# Altium footprint library 691 242 610 0xx.PcbLib: 3 footprints
Each footprint in its own frame and in the unit in brackets; x right, y up, seen from the top. Pads: shape width x height; smd on the part's side, far side on the other; paste and mask are expansions set on the pad; w line width, h text height; cw(c..) or ccw(c..) is an arc to the next point about the centre after c.
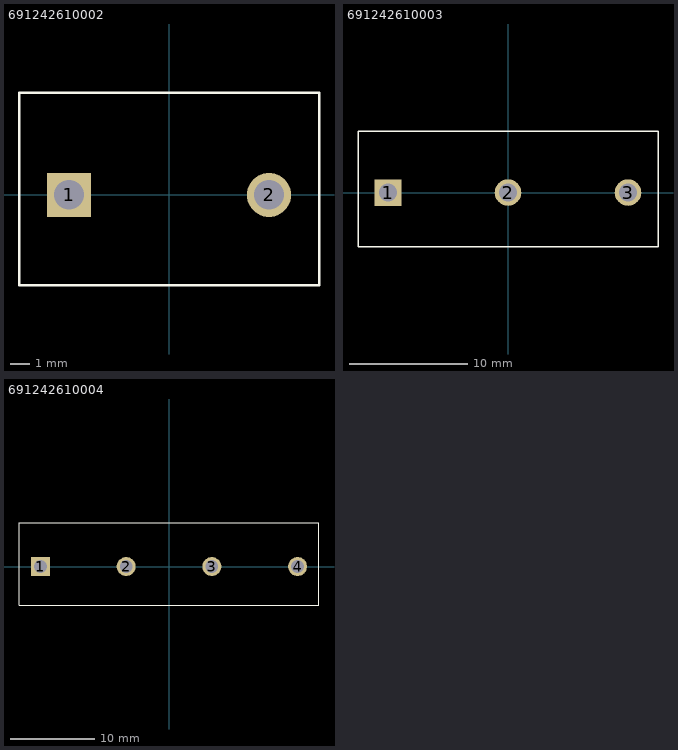
[diagram p0: the footprints below, top view; thin cyan lines are the x and y axes]

## 691242610002 [mm] "Serie 2426 - 10.16 mm _ 2 pins"
height 13.8
pads (2):
  rect 2.25x2.25 hole 1.5: 1(-5.08,0)
  round 2.25 hole 1.5: 2(5.08,0)
Top Overlay:
  lines w0.127: -7.62,-4.6 7.62,-4.6 7.62,5.2 -7.62,5.2 -7.62,-4.6

## 691242610003 [mm] "Serie 2426 - 10.16 mm _ 3 pins"
height 13.8
pads (3):
  rect 2.25x2.25 hole 1.5: 1(-10.16,0)
  round 2.25 hole 1.5: 2(0,0) 3(10.16,0)
Top Overlay:
  lines w0.127: -12.7,-4.6 -12.7,5.2 12.7,5.2 12.7,-4.6 -12.7,-4.6
3D body: height 13.9, standoff -3.4, extent -12.7,-4.6 12.7,5.2

## 691242610004 [mm] "Serie 2426 - 10.16 mm _ 4 pins"
height 13.8
pads (4):
  rect 2.25x2.25 hole 1.5: 1(-15.24,0)
  round 2.25 hole 1.5: 2(-5.08,0) 3(5.08,0) 4(15.24,0)
Top Overlay:
  lines w0.127: -17.78,-4.6 17.78,-4.6 17.78,5.2 -17.78,5.2 -17.78,-4.6
3D body: height 13.9, standoff -3.4, extent -17.8,-4.6 17.76,5.2